# Altium schematic symbol library lib_Emile.SchLib: 4 symbols
Pins are listed as number, name and electrical type; pins without a type are passive.

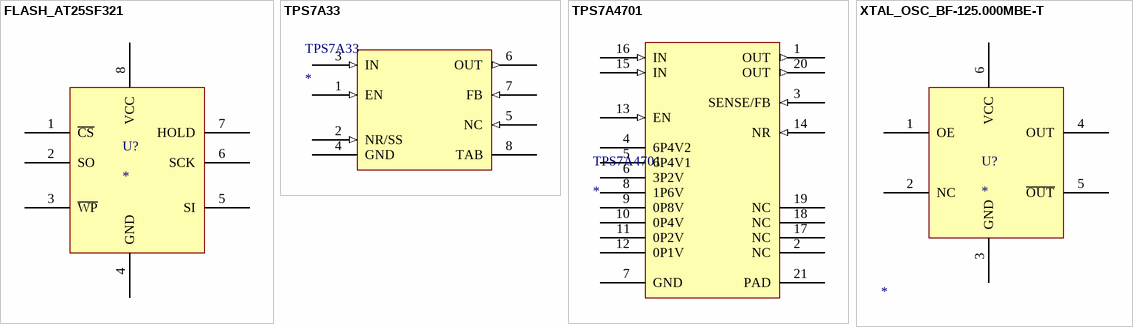
[diagram p0: symbols FLASH_AT25SF321 to XTAL_OSC_BF-125.000MBE-T]

## FLASH_AT25SF321
designator U?
pins: 1 ~{CS} (power), 2 SO (power), 3 ~{WP} (power), 4 GND (power), 5 SI, 6 SCK, 7 HOLD, 8 VCC (power)

## TPS7A33
designator TPS7A33
pins: 1 EN (in), 2 NR/SS (in), 3 IN (in), 4 GND (power), 5 NC (in), 6 OUT (out), 7 FB (in), 8 TAB (power)

## TPS7A4701
designator TPS7A4701
pins: 1 OUT (out), 2 NC, 3 SENSE/FB (in), 4 6P4V2 (power), 5 6P4V1 (power), 6 3P2V (power), 7 GND (power), 8 1P6V (power), 9 0P8V (power), 10 0P4V (power), 11 0P2V (power), 12 0P1V (power), 13 EN (in), 14 NR (in), 15 IN (in), 16 IN (in), 17 NC, 18 NC, 19 NC, 20 OUT (out), 21 PAD

## XTAL_OSC_BF-125.000MBE-T
designator U?
Parameter 1: *
pins: 1 OE (power), 2 NC (power), 3 GND (power), 4 OUT, 5 ~{OUT}, 6 VCC (power)